# Altium footprint library A4988_Connector.PcbLib: 1 footprints
Each footprint in its own frame and in the unit in brackets; x right, y up, seen from the top. Pads: shape width x height; smd on the part's side, far side on the other; paste and mask are expansions set on the pad; w line width, h text height; cw(c..) or ccw(c..) is an arc to the next point about the centre after c.
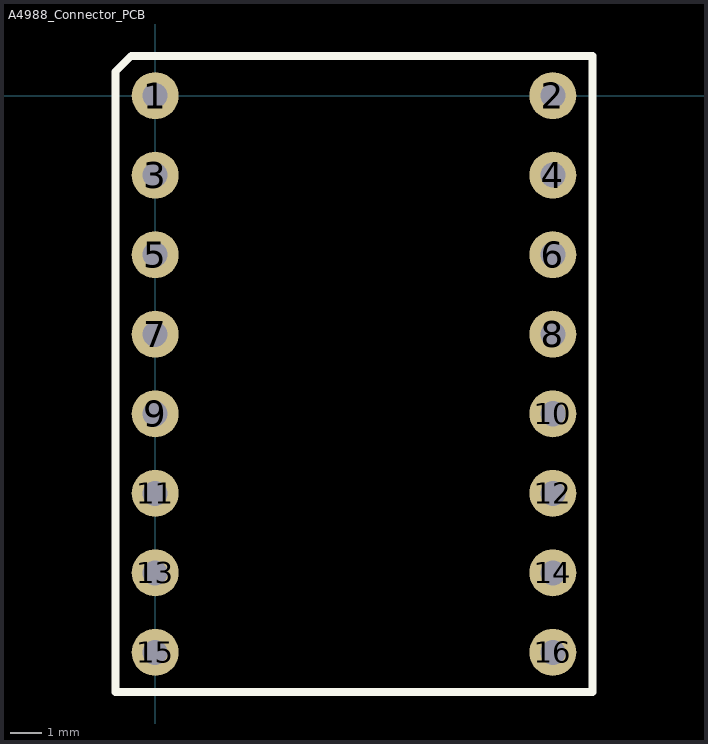
[diagram p0: the footprint, top view; thin cyan lines are the x and y axes]

## A4988_Connector_PCB [mm]
pads (16):
  round 1.5 hole 0.8: 1(0,0) 2(12.7,0) 3(0,-2.54) 4(12.7,-2.54) 5(0,-5.08) 6(12.7,-5.08) 7(0,-7.62) 8(12.7,-7.62) 9(0,-10.16) 10(12.7,-10.16) 11(0,-12.7) 12(12.7,-12.7) 13(0,-15.24) 14(12.7,-15.24) 15(0,-17.78) 16(12.7,-17.78)
Top Overlay:
  lines w0.254: -1.27,0.254 -1.27,0.762 -0.762,1.27 13.716,1.27 ; -1.27,0.508 -1.27,-19.05 13.97,-19.05 13.97,1.27 13.208,1.27
3D body: height 10, standoff 0, extent -1.27,-19.05 13.97,1.27